# EAGLE library part STM32F042F6P6 (library STM32F042F6Px)
32-Bit MCU 32K Flash USB2.0 CAN TSSOP20 STMicroelectronics STM32F042F6P6, 32bit ARM Cortex M0 Microcontroller, 48MHz, 32 kB Flash, 20-Pin TSSOP Source: Datasheet <http://www.st.com/content/ccc/resource/technical/document/datasheet/52/ad/d0/80/e6/be/40/ad/DM00105814.pdf/files/DM00105814.pdf/jcr:content/translations/en.DM00105814.pdf>
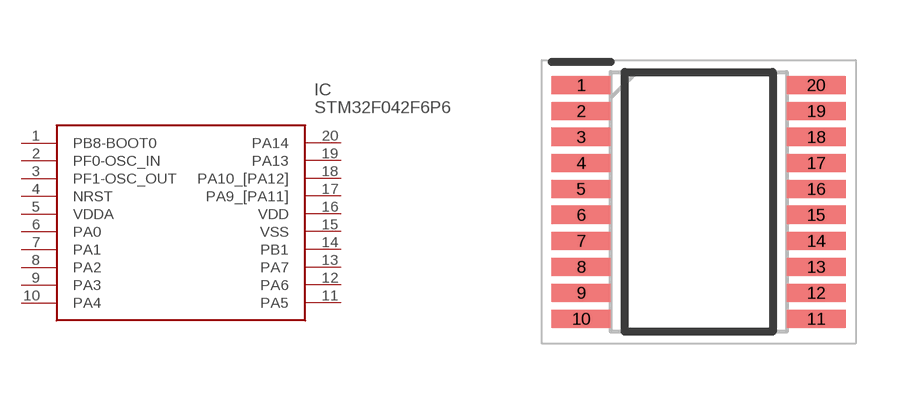
[diagram p0: symbol with the pads of SOP65P640X120-20N; footprint SOP65P640X120-20N]

Designator prefix IC

## STM32F042F6P6 (Description: 32-Bit MCU 32K Flash USB2.0 CAN TSSOP20 STMicroelectronics STM32F042F6P6, 32bit ARM Cortex M0 Microcontroller, 48MHz, 32 kB Flash, 20-Pin TSSOP; Height: 1.2mm; Manufacturer_Name: STMicroelectronics; Manufacturer_Part_Number: STM32F042F6P6; Mouser_Part_Number: 511-STM32F042F6P6; Mouser_Price-Stock: https://www.mouser.co.uk/ProductDetail/STMicroelectronics/STM32F042F6P6?qs=4b8myOmUP%252BsTtpJfUMo83g%3D%3D)  [SOP65P640X120-20N]
1  PB8-BOOT0
2  PF0-OSC_IN
3  PF1-OSC_OUT
4  NRST
5  VDDA
6  PA0
7  PA1
8  PA2
9  PA3
10  PA4
11  PA5
12  PA6
13  PA7
14  PB1
15  VSS
16  VDD
17  PA9_[PA11]
18  PA10_[PA12]
19  PA13
20  PA14

## Footprint SOP65P640X120-20N (pad centres in mm)
TSSOP-20+
smd 1.475 x 0.45: 1 -2.938,2.925; 2 -2.938,2.275; 3 -2.938,1.625; 4 -2.938,0.975; 5 -2.938,0.325; 6 -2.938,-0.325; 7 -2.938,-0.975; 8 -2.938,-1.625; 9 -2.938,-2.275; 10 -2.938,-2.925; 11 2.938,-2.925; 12 2.938,-2.275; 13 2.938,-1.625; 14 2.938,-0.975; 15 2.938,-0.325; 16 2.938,0.325; 17 2.938,0.975; 18 2.938,1.625; 19 2.938,2.275; 20 2.938,2.925